# Altium schematic symbol library Interface_UART.SchLib: 164 symbols (part 2 of 2)
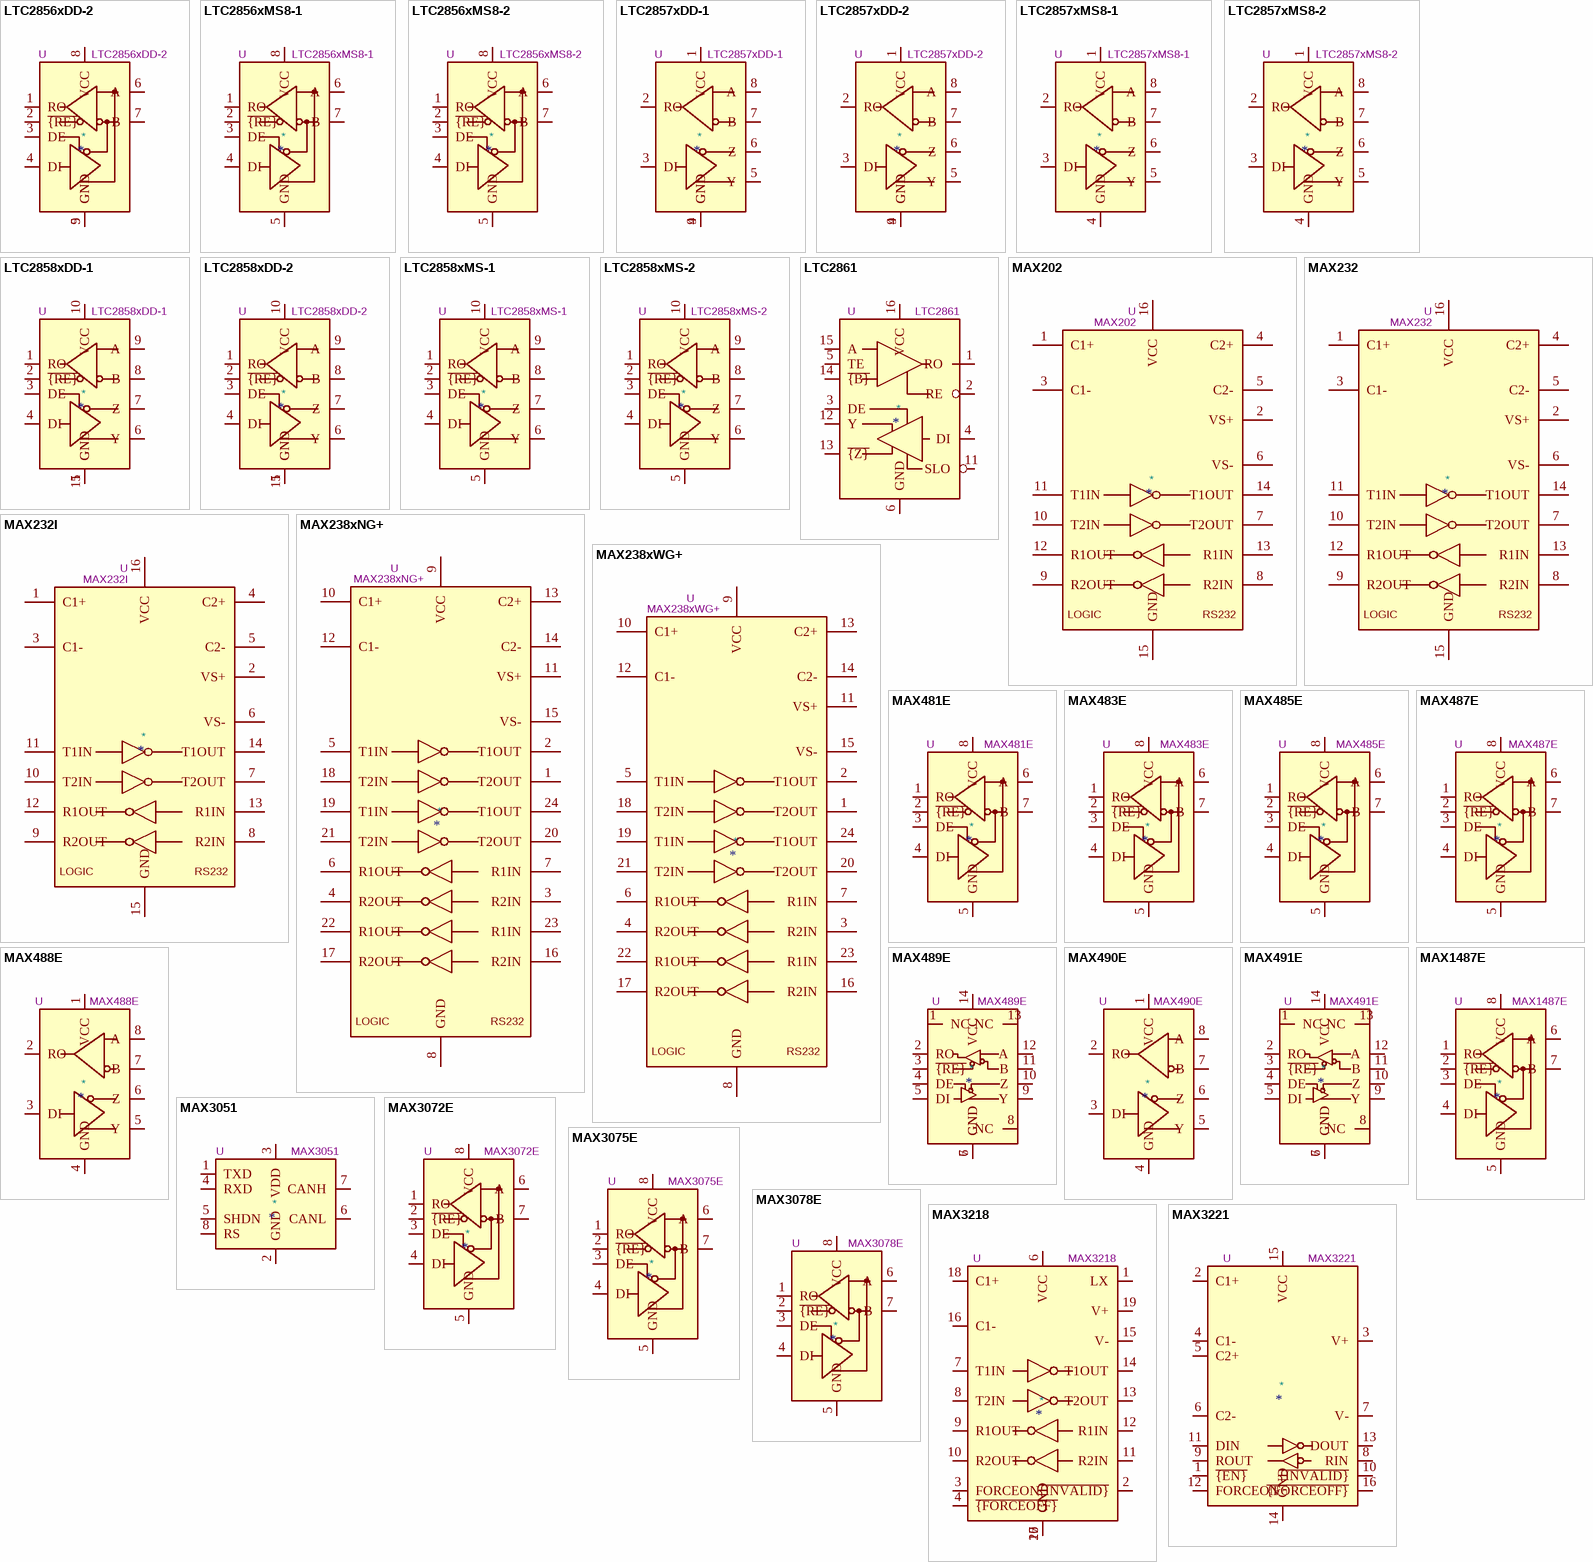
[diagram p7: symbols LTC2856xDD-2 to MAX3221]

## MAX485E
designator *  value MAX485E  Reference: U
Half duplex RS-485/RS-422, 2.5 Mbps, ±15kV electro-static discharge (ESD) protection, no slew-rate, no low-power shutdown, with receiver/driver enable, 32 receiver drive capability, DIP-8 and SOIC-8; ki_keywords: transceiver; ki_fp_filters: DIP*W7.62mm* SOIC*3.9x4.9mm*P1.27mm*; Datasheet: https://datasheets.maximintegrated.com/en/ds/MAX1487E-MAX491E.pdf; Description_: Half duplex RS-485/RS-422, 2.5 Mbps, ±15kV electro-static discharge (ESD) protection, no slew-rate, no low-power shutdown, with receiver/driver enable, 32 receiver drive capability, DIP-8 and SOIC-8
footprint SOIC-8_3.9x4.9mm_P1.27mm
pins: 1 RO, 2 ~{{RE}}, 3 DE, 4 DI, 5 GND, 6 A, 7 B, 8 VCC

## MAX487E
designator *  value MAX487E  Reference: U
Half duplex RS-485/RS-422, 0.25 Mbps, ±15kV electro-static discharge (ESD) protection, with slew-rate, with low-power shutdown, with receiver/driver enable, 128 receiver drive capability, DIP-8 and SOIC-8; ki_keywords: transceiver; ki_fp_filters: DIP*W7.62mm* SOIC*3.9x4.9mm*P1.27mm*; Datasheet: https://datasheets.maximintegrated.com/en/ds/MAX1487E-MAX491E.pdf; Description_: Half duplex RS-485/RS-422, 0.25 Mbps, ±15kV electro-static discharge (ESD) protection, with slew-rate, with low-power shutdown, with receiver/driver enable, 128 receiver drive capability, DIP-8 and SOIC-8
pins: 1 RO, 2 ~{{RE}}, 3 DE, 4 DI, 5 GND, 6 A, 7 B, 8 VCC

## MAX488E
designator *  value MAX488E  Reference: U
Full duplex RS-485/RS-422, 0.25 Mbps, ±15kV electro-static discharge (ESD) protection, slew-rate limited, no low-power shutdown, no with receiver/driver enable, 32 receiver drive capability, 0 to +70 degree Celsius, DIP-8 and SOIC-8; ki_keywords: transceiver; ki_fp_filters: DIP*W7.62mm* SOIC*3.9x4.9mm*P1.27mm*; Datasheet: https://datasheets.maximintegrated.com/en/ds/MAX1487E-MAX491E.pdf; Description_: Full duplex RS-485/RS-422, 0.25 Mbps, ±15kV electro-static discharge (ESD) protection, slew-rate limited, no low-power shutdown, no with receiver/driver enable, 32 receiver drive capability, 0 to +70 degree Celsius, DIP-8 and SOIC-8
pins: 1 VCC, 2 RO, 3 DI, 4 GND, 5 Y, 6 Z, 7 B, 8 A

## MAX489E
designator *  value MAX489E  Reference: U
Full duplex RS-485/RS-422, 0.25 Mbps, ±15kV electro-static discharge (ESD) protection, slew-rate limited, no low-power shutdown, with with receiver/driver enable, 32 receiver drive capability, 0 to +70 degree Celsius, DIP-14 and SOIC-14; ki_keywords: transceiver; ki_fp_filters: DIP*W7.62mm* SOIC*3.9x8.7mm*P1.27mm*; Datasheet: https://datasheets.maximintegrated.com/en/ds/MAX1487E-MAX491E.pdf; Description_: Full duplex RS-485/RS-422, 0.25 Mbps, ±15kV electro-static discharge (ESD) protection, slew-rate limited, no low-power shutdown, with with receiver/driver enable, 32 receiver drive capability, 0 to +70 degree Celsius, DIP-14 and SOIC-14
pins: 1 NC, 2 RO, 3 ~{{RE}}, 4 DE, 5 DI, 6 GND, 7 GND, 8 NC, 9 Y, 10 Z, 11 B, 12 A, 13 NC, 14 VCC

## MAX490E
designator *  value MAX490E  Reference: U
Full duplex RS-485/RS-422, 2.5 Mbps, ±15kV electro-static discharge (ESD) protection, no slew-rate limited, no low-power shutdown, no with receiver/driver enable, 32 receiver drive capability, -40 to +85 degree Celsius, DIP-8 and SOIC-8; ki_keywords: transceiver; ki_fp_filters: DIP*W7.62mm* SOIC*3.9x4.9mm*P1.27mm*; Datasheet: https://datasheets.maximintegrated.com/en/ds/MAX1487E-MAX491E.pdf; Description_: Full duplex RS-485/RS-422, 2.5 Mbps, ±15kV electro-static discharge (ESD) protection, no slew-rate limited, no low-power shutdown, no with receiver/driver enable, 32 receiver drive capability, -40 to +85 degree Celsius, DIP-8 and SOIC-8
pins: 1 VCC, 2 RO, 3 DI, 4 GND, 5 Y, 6 Z, 7 B, 8 A

## MAX491E
designator *  value MAX491E  Reference: U
Full duplex RS-485/RS-422, 2.5 Mbps, ±15kV electro-static discharge (ESD) protection, no slew-rate limited, no low-power shutdown, with receiver/driver enable, 32 receiver drive capability, 0 to +70 degree Celsius, DIP-14 and SOIC-14; ki_keywords: transceiver; ki_fp_filters: DIP*W7.62mm* SOIC*3.9x8.7mm*P1.27mm*; Datasheet: https://datasheets.maximintegrated.com/en/ds/MAX1487E-MAX491E.pdf; Description_: Full duplex RS-485/RS-422, 2.5 Mbps, ±15kV electro-static discharge (ESD) protection, no slew-rate limited, no low-power shutdown, with receiver/driver enable, 32 receiver drive capability, 0 to +70 degree Celsius, DIP-14 and SOIC-14
pins: 1 NC, 2 RO, 3 ~{{RE}}, 4 DE, 5 DI, 6 GND, 7 GND, 8 NC, 9 Y, 10 Z, 11 B, 12 A, 13 NC, 14 VCC

## MAX1487E
designator *  value MAX1487E  Reference: U
Half duplex RS-485/RS-422, 2.5 Mbps, ±15kV electro-static discharge (ESD) protection, no slew-rate, no low-power shutdown, with receiver/driver enable, 128 receiver drive capability, DIP-8 and SOIC-8; ki_keywords: transceiver; ki_fp_filters: DIP*W7.62mm* SOIC*3.9x4.9mm*P1.27mm*; Datasheet: https://datasheets.maximintegrated.com/en/ds/MAX1487E-MAX491E.pdf; Description_: Half duplex RS-485/RS-422, 2.5 Mbps, ±15kV electro-static discharge (ESD) protection, no slew-rate, no low-power shutdown, with receiver/driver enable, 128 receiver drive capability, DIP-8 and SOIC-8
pins: 1 RO, 2 ~{{RE}}, 3 DE, 4 DI, 5 GND, 6 A, 7 B, 8 VCC

## MAX3051
designator *  value MAX3051  Reference: U
High-Speed CAN Transceiver, 1Mbps, 3.3V supply; ki_fp_filters: SOT?23* SOIC*; Datasheet: http://datasheets.maximintegrated.com/en/ds/MAX3051.pdf; Description_: High-Speed CAN Transceiver, 1Mbps, 3.3V supply; ki_keywords: High-Speed CAN Transceiver
pins: 1 TXD, 2 GND, 3 VDD, 4 RXD, 5 SHDN, 6 CANL, 7 CANH, 8 RS

## MAX3072E
designator *  value MAX3072E  Reference: U
+3.3V, ±15kV ESD-Protected, Fail-Safe, Hot-Swap, RS-485/RS-422 Transceivers, SOIC-8; ki_keywords: Low Power Half-Duplex RS-485 RS-422 Transceiver; ki_fp_filters: SOIC*3.9x4.9mm*P1.27mm*; Footprint: Package_SO:SOIC-8_3.9x4.9mm_P1.27mm; Datasheet: https://datasheets.maximintegrated.com/en/ds/MAX3070E-MAX3079E.pdf; Description_: +3.3V, ±15kV ESD-Protected, Fail-Safe, Hot-Swap, RS-485/RS-422 Transceivers, SOIC-8
pins: 1 RO, 2 ~{{RE}}, 3 DE, 4 DI, 5 GND, 6 A, 7 B, 8 VCC

## MAX3075E
designator *  value MAX3075E  Reference: U
+3.3V, ±15kV ESD-Protected, Fail-Safe, Hot-Swap, RS-485/RS-422 Transceivers, SOIC-8; ki_keywords: Low Power Half-Duplex RS-485 RS-422 Transceiver; ki_fp_filters: SOIC*3.9x4.9mm*P1.27mm*; Footprint: Package_SO:SOIC-8_3.9x4.9mm_P1.27mm; Datasheet: https://datasheets.maximintegrated.com/en/ds/MAX3070E-MAX3079E.pdf; Description_: +3.3V, ±15kV ESD-Protected, Fail-Safe, Hot-Swap, RS-485/RS-422 Transceivers, SOIC-8
pins: 1 RO, 2 ~{{RE}}, 3 DE, 4 DI, 5 GND, 6 A, 7 B, 8 VCC

## MAX3078E
designator *  value MAX3078E  Reference: U
+3.3V, ±15kV ESD-Protected, Fail-Safe, Hot-Swap, RS-485/RS-422 Transceivers, SOIC-8; ki_keywords: Low Power Half-Duplex RS-485 RS-422 Transceiver; ki_fp_filters: SOIC*3.9x4.9mm*P1.27mm*; Footprint: Package_SO:SOIC-8_3.9x4.9mm_P1.27mm; Datasheet: https://datasheets.maximintegrated.com/en/ds/MAX3070E-MAX3079E.pdf; Description_: +3.3V, ±15kV ESD-Protected, Fail-Safe, Hot-Swap, RS-485/RS-422 Transceivers, SOIC-8
pins: 1 RO, 2 ~{{RE}}, 3 DE, 4 DI, 5 GND, 6 A, 7 B, 8 VCC

## MAX3218
designator *  value MAX3218  Reference: U
Dual RS-232 Transceiver, 1.8V to 4.25V, AutoShutdown, DIP-20/SSOP-20; ki_keywords: 1μA Supply Current; ki_fp_filters: DIP*W7.62mm* SSOP*5.3x7.2mm*P0.65mm*; Datasheet: https://datasheets.maximintegrated.com/en/ds/MAX3218.pdf; Description_: Dual RS-232 Transceiver, 1.8V to 4.25V, AutoShutdown, DIP-20/SSOP-20
pins: 1 LX, 2 ~{{INVALID}}, 3 FORCEON, 4 ~{{FORCEOFF}}, 5 GND, 6 VCC, 7 T1IN, 8 T2IN, 9 R1OUT, 10 R2OUT, 11 R2IN, 12 R1IN, 13 T2OUT, 14 T1OUT, 15 V-, 16 C1-, 17 GND, 18 C1+, 19 V+, 20 GND

## MAX3221
designator *  value MAX3221  Reference: U
RS232 transceiver with 15kV ESD protection; ki_keywords: serial UART RS232; ki_fp_filters: SSOP* TSSOP*; Datasheet: http://www.ti.com/lit/ds/symlink/max3221.pdf; Description_: RS232 transceiver with 15kV ESD protection
pins: 1 ~{{EN}}, 2 C1+, 3 V+, 4 C1-, 5 C2+, 6 C2-, 7 V-, 8 RIN, 9 ROUT, 10 ~{{INVALID}}, 11 DIN, 12 FORCEON, 13 DOUT, 14 GND, 15 VCC, 16 ~{{FORCEOFF}}

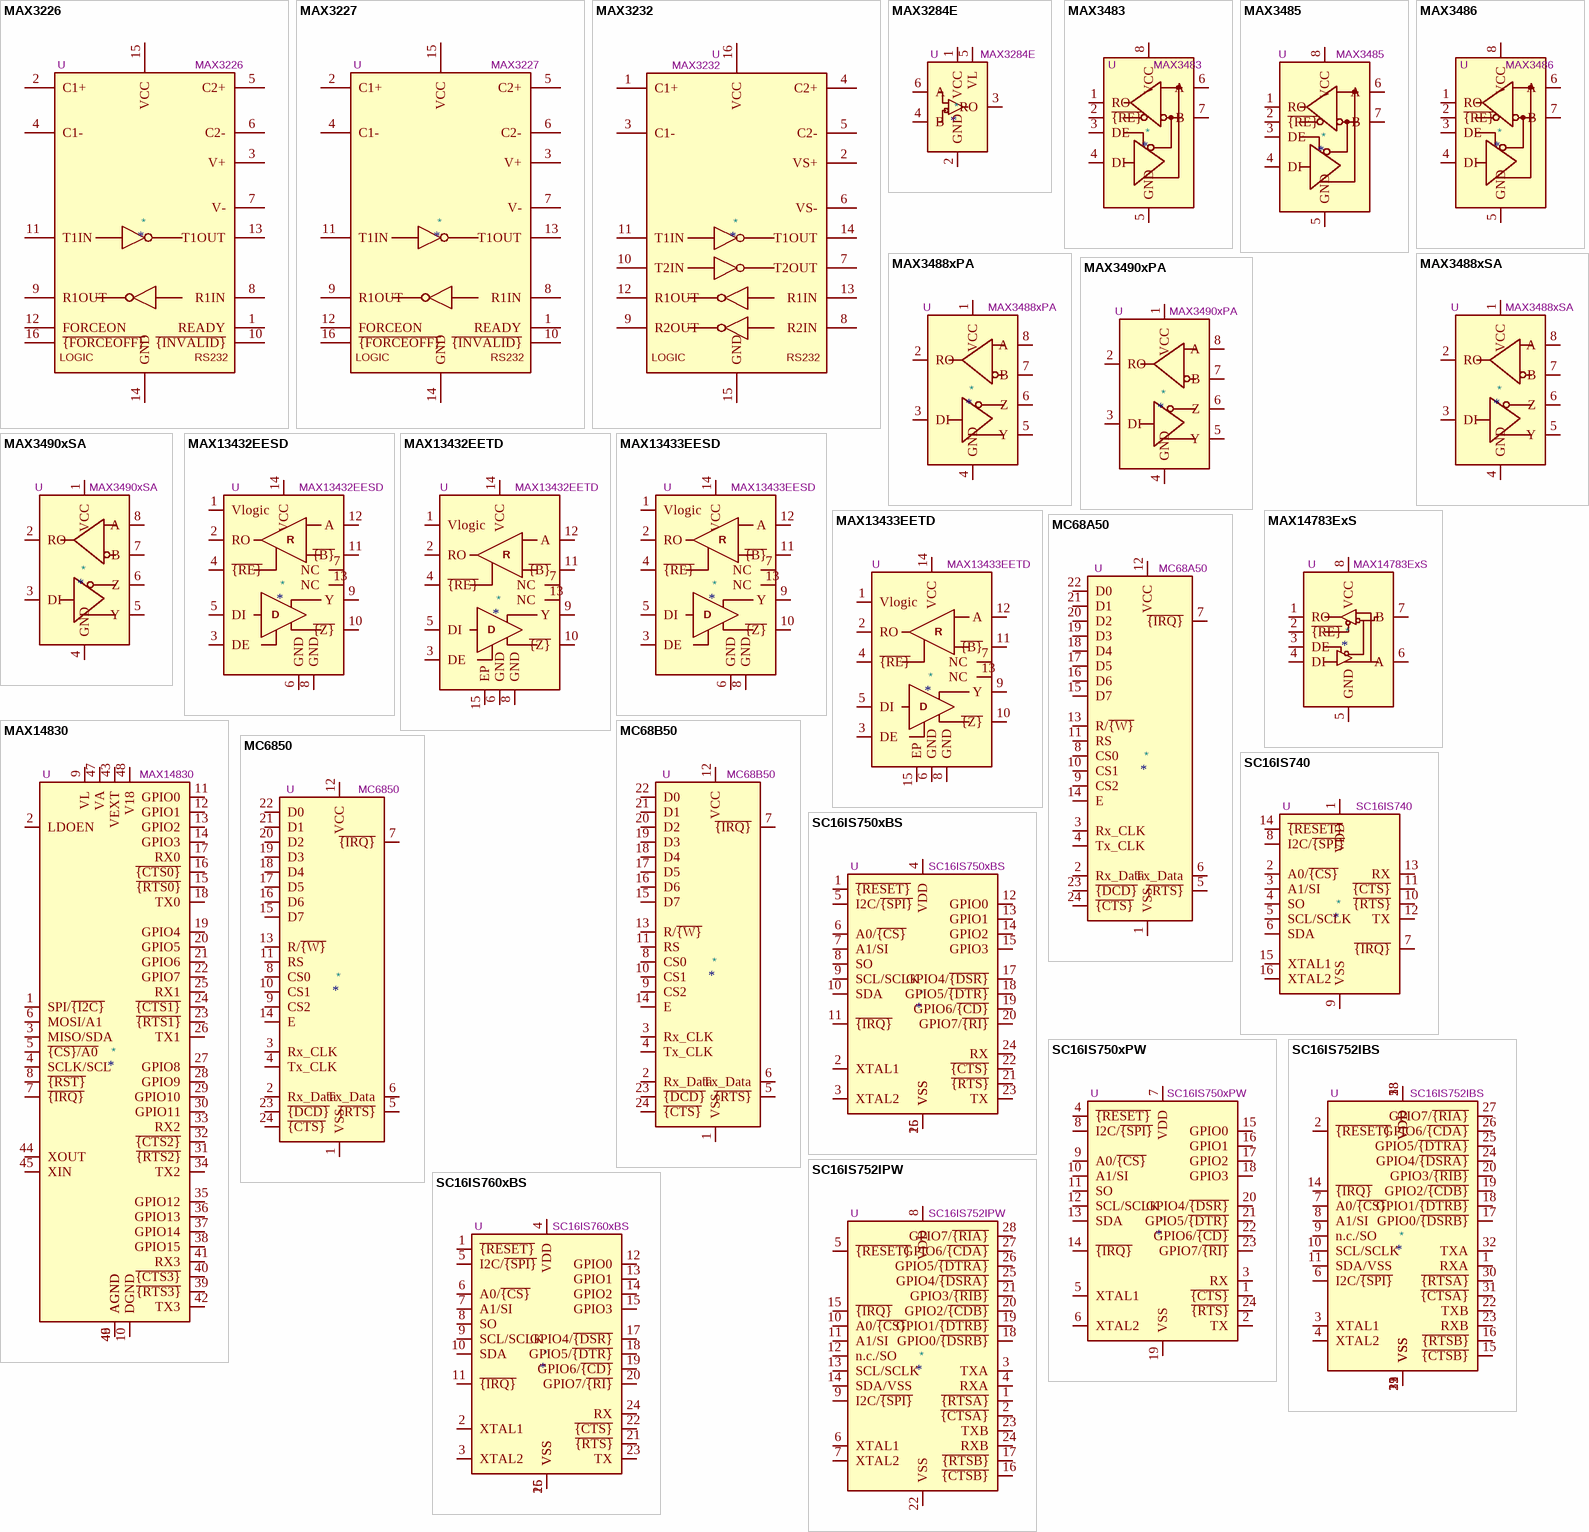
[diagram p4: symbols MAX3226 to SC16IS760xBS]

## MAX3226
designator *  value MAX3226  Reference: U
Single RS232 driver/receiver, 3.0V to 5V supply, 250kb/s, AutoShutdown Plus, SSOP-16 package; ki_keywords: rs232 uart transceiver; ki_fp_filters: SSOP*5.3x6.2mm*P0.65mm*; Footprint: Package_SO:SSOP-16_5.3x6.2mm_P0.65mm; Datasheet: https://datasheets.maximintegrated.com/en/ds/MAX3224-MAX3245.pdf; Description_: Single RS232 driver/receiver, 3.0V to 5V supply, 250kb/s, AutoShutdown Plus, SSOP-16 package
pins: 1 READY, 2 C1+, 3 V+, 4 C1-, 5 C2+, 6 C2-, 7 V-, 8 R1IN, 9 R1OUT, 10 ~{{INVALID}}, 11 T1IN, 12 FORCEON, 13 T1OUT, 14 GND, 15 VCC, 16 ~{{FORCEOFF}}
text: LOGIC; RS232

## MAX3227
designator *  value MAX3227  Reference: U
Single RS232 driver/receiver, 3.0V to 5V supply, 1Mb/s, AutoShutdown Plus, SSOP-16 package; ki_keywords: rs232 uart transceiver; ki_fp_filters: SSOP*5.3x6.2mm*P0.65mm*; Footprint: Package_SO:SSOP-16_5.3x6.2mm_P0.65mm; Datasheet: https://datasheets.maximintegrated.com/en/ds/MAX3224-MAX3245.pdf; Description_: Single RS232 driver/receiver, 3.0V to 5V supply, 1Mb/s, AutoShutdown Plus, SSOP-16 package
pins: 1 READY, 2 C1+, 3 V+, 4 C1-, 5 C2+, 6 C2-, 7 V-, 8 R1IN, 9 R1OUT, 10 ~{{INVALID}}, 11 T1IN, 12 FORCEON, 13 T1OUT, 14 GND, 15 VCC, 16 ~{{FORCEOFF}}
text: LOGIC; RS232

## MAX3232
designator *  value MAX3232  Reference: U
3.0V to 5.5V, Low-Power, up to 1Mbps, True RS-232 Transceivers Using Four 0.1μF External Capacitors; ki_keywords: rs232 uart transceiver line-driver; ki_fp_filters: SOIC*P1.27mm* DIP*W7.62mm* TSSOP*4.4x5mm*P0.65mm*; Datasheet: https://datasheets.maximintegrated.com/en/ds/MAX3222-MAX3241.pdf; Description_: 3.0V to 5.5V, Low-Power, up to 1Mbps, True RS-232 Transceivers Using Four 0.1μF External Capacitors
pins: 1 C1+, 2 VS+, 3 C1-, 4 C2+, 5 C2-, 6 VS-, 7 T2OUT, 8 R2IN, 9 R2OUT, 10 T2IN, 11 T1IN, 12 R1OUT, 13 R1IN, 14 T1OUT, 15 GND, 16 VCC
text: LOGIC; RS232

## MAX3284E
designator *  value MAX3284E  Reference: U
±15kV ESD-Protected 52Mbps, 3V to 5.5V RS-485/RS-422 True Fail-Safe Receivers, SOT23; ki_keywords: RS-485 RS-422 True Fail-Safe Receivers 1/4 unit load receiver; ki_fp_filters: SOT?23*; Footprint: Package_TO_SOT_SMD:SOT-23-6; Datasheet: https://datasheets.maximintegrated.com/en/ds/MAX3280E-MAX3284E.pdf; Description_: ±15kV ESD-Protected 52Mbps, 3V to 5.5V RS-485/RS-422 True Fail-Safe Receivers, SOT23
pins: 1 VCC, 2 GND, 3 RO, 4 B, 5 VL, 6 A

## MAX3483
designator *  value MAX3483  Reference: U
True RS-485/RS-422, 0.25Mbps, Slew-Rate Limited, with low-power shutdown, with receiver/driver enable, 32 receiver drive capacitity, DIP-8 and SOIC-8; ki_keywords: RS-485 RS-422 UART line-driver transceiver; ki_fp_filters: DIP*W7.62mm* SOIC*3.9x4.9mm*P1.27mm*; Datasheet: https://datasheets.maximintegrated.com/en/ds/MAX3483-MAX3491.pdf; Description_: True RS-485/RS-422, 0.25Mbps, Slew-Rate Limited, with low-power shutdown, with receiver/driver enable, 32 receiver drive capacitity, DIP-8 and SOIC-8
pins: 1 RO, 2 ~{{RE}}, 3 DE, 4 DI, 5 GND, 6 A, 7 B, 8 VCC

## MAX3485
designator *  value MAX3485  Reference: U
True RS-485/RS-422, 10Mbps, Slew-Rate Limited, with low-power shutdown, with receiver/driver enable, 32 receiver drive capacitity, DIP-8 and SOIC-8; ki_keywords: RS-485 RS-422 UART line-driver transceiver; ki_fp_filters: DIP*W7.62mm* SOIC*3.9x4.9mm*P1.27mm*; Datasheet: https://datasheets.maximintegrated.com/en/ds/MAX3483-MAX3491.pdf; Description_: True RS-485/RS-422, 10Mbps, Slew-Rate Limited, with low-power shutdown, with receiver/driver enable, 32 receiver drive capacitity, DIP-8 and SOIC-8
pins: 1 RO, 2 ~{{RE}}, 3 DE, 4 DI, 5 GND, 6 A, 7 B, 8 VCC

## MAX3486
designator *  value MAX3486  Reference: U
True RS-485/RS-422, 2.5Mbps, Slew-Rate Limited, with low-power shutdown, with receiver/driver enable, 32 receiver drive capacitity, DIP-8 and SOIC-8; ki_keywords: RS-485 RS-422 UART line-driver transceiver; ki_fp_filters: DIP*W7.62mm* SOIC*3.9x4.9mm*P1.27mm*; Datasheet: https://datasheets.maximintegrated.com/en/ds/MAX3483-MAX3491.pdf; Description_: True RS-485/RS-422, 2.5Mbps, Slew-Rate Limited, with low-power shutdown, with receiver/driver enable, 32 receiver drive capacitity, DIP-8 and SOIC-8
pins: 1 RO, 2 ~{{RE}}, 3 DE, 4 DI, 5 GND, 6 A, 7 B, 8 VCC

## MAX3488xPA
designator *  value MAX3488xPA  Reference: U
Full duplex RS-485/RS-422, 0.25 Mbps, slew-rate limited, no low-power shutdown, no with receiver/driver enable, 32 receiver drive capability, DIP-8; ki_keywords: transceiver; ki_fp_filters: DIP*W7.62mm*; Footprint: Package_DIP:DIP-8_W7.62mm; Datasheet: https://www.analog.com/media/en/technical-documentation/data-sheets/MAX3483-MAX3491.pdf; Description_: Full duplex RS-485/RS-422, 0.25 Mbps, slew-rate limited, no low-power shutdown, no with receiver/driver enable, 32 receiver drive capability, DIP-8
pins: 1 VCC, 2 RO, 3 DI, 4 GND, 5 Y, 6 Z, 7 B, 8 A

## MAX3488xSA
designator *  value MAX3488xSA  Reference: U
Full duplex RS-485/RS-422, 0.25 Mbps, slew-rate limited, no low-power shutdown, no with receiver/driver enable, 32 receiver drive capability, SOIC-8; ki_keywords: transceiver; ki_fp_filters: SOIC*3.9x4.9mm*P1.27mm*; Footprint: Package_SO:SOIC-8_3.9x4.9mm_P1.27mm; Datasheet: https://www.analog.com/media/en/technical-documentation/data-sheets/MAX3483-MAX3491.pdf; Description_: Full duplex RS-485/RS-422, 0.25 Mbps, slew-rate limited, no low-power shutdown, no with receiver/driver enable, 32 receiver drive capability, SOIC-8
pins: 1 VCC, 2 RO, 3 DI, 4 GND, 5 Y, 6 Z, 7 B, 8 A

## MAX3490xPA
designator *  value MAX3490xPA  Reference: U
Full duplex RS-485/RS-422, 10 Mbps, slew-rate limited, no low-power shutdown, no with receiver/driver enable, 32 receiver drive capability, DIP-8; ki_keywords: transceiver; ki_fp_filters: DIP*W7.62mm*; Footprint: Package_DIP:DIP-8_W7.62mm; Datasheet: https://www.analog.com/media/en/technical-documentation/data-sheets/MAX3483-MAX3491.pdf; Description_: Full duplex RS-485/RS-422, 10 Mbps, slew-rate limited, no low-power shutdown, no with receiver/driver enable, 32 receiver drive capability, DIP-8
pins: 1 VCC, 2 RO, 3 DI, 4 GND, 5 Y, 6 Z, 7 B, 8 A

## MAX3490xSA
designator *  value MAX3490xSA  Reference: U
Full duplex RS-485/RS-422, 10Mbps, slew-rate limited, no low-power shutdown, no with receiver/driver enable, 32 receiver drive capability, SOIC-8; ki_keywords: transceiver; ki_fp_filters: SOIC*3.9x4.9mm*P1.27mm*; Footprint: Package_SO:SOIC-8_3.9x4.9mm_P1.27mm; Datasheet: https://www.analog.com/media/en/technical-documentation/data-sheets/MAX3483-MAX3491.pdf; Description_: Full duplex RS-485/RS-422, 10Mbps, slew-rate limited, no low-power shutdown, no with receiver/driver enable, 32 receiver drive capability, SOIC-8
pins: 1 VCC, 2 RO, 3 DI, 4 GND, 5 Y, 6 Z, 7 B, 8 A

## MAX13432EESD
designator *  value MAX13432EESD  Reference: U
RS485 transceiver, full duplex, dual supply, receiver/driver enable, 500kbps, SOIC-14 package; ki_fp_filters: SOIC*3.9x8.7mm*P1.27mm*; Footprint: Package_SO:SOIC-14_3.9x8.7mm_P1.27mm; Datasheet: https://datasheets.maximintegrated.com/en/ds/MAX13430E-MAX13433E.pdf; Description_: RS485 transceiver, full duplex, dual supply, receiver/driver enable, 500kbps, SOIC-14 package; ki_keywords: rs485 transceiver
pins: 1 Vlogic, 2 RO, 3 DE, 4 ~{{RE}}, 5 DI, 6 GND, 7 NC, 8 GND, 9 Y, 10 ~{{Z}}, 11 ~{{B}}, 12 A, 13 NC, 14 VCC
text: R; D

## MAX13432EETD
designator *  value MAX13432EETD  Reference: U
RS485 transceiver, full duplex, dual supply, receiver/driver enable, 500kbps, DFN-14 package; ki_fp_filters: DFN*3x3mm*P0.4mm*; Footprint: Package_DFN_QFN:DFN-14-1EP_3x3mm_P0.4mm_EP1.78x2.35mm; Datasheet: https://datasheets.maximintegrated.com/en/ds/MAX13430E-MAX13433E.pdf; Description_: RS485 transceiver, full duplex, dual supply, receiver/driver enable, 500kbps, DFN-14 package; ki_keywords: rs485 transceiver
pins: 1 Vlogic, 2 RO, 3 DE, 4 ~{{RE}}, 5 DI, 6 GND, 7 NC, 8 GND, 9 Y, 10 ~{{Z}}, 11 ~{{B}}, 12 A, 13 NC, 14 VCC, 15 EP
text: R; D

## MAX13433EESD
designator *  value MAX13433EESD  Reference: U
RS485 transceiver, full duplex, dual supply, receiver/driver enable, 16Mbps, SOIC-14 package; ki_fp_filters: SOIC*3.9x8.7mm*P1.27mm*; Footprint: Package_SO:SOIC-14_3.9x8.7mm_P1.27mm; Datasheet: https://datasheets.maximintegrated.com/en/ds/MAX13430E-MAX13433E.pdf; Description_: RS485 transceiver, full duplex, dual supply, receiver/driver enable, 16Mbps, SOIC-14 package; ki_keywords: rs485 transceiver
pins: 1 Vlogic, 2 RO, 3 DE, 4 ~{{RE}}, 5 DI, 6 GND, 7 NC, 8 GND, 9 Y, 10 ~{{Z}}, 11 ~{{B}}, 12 A, 13 NC, 14 VCC
text: R; D

## MAX13433EETD
designator *  value MAX13433EETD  Reference: U
RS485 transceiver, full duplex, dual supply, receiver/driver enable, 16Mbps, DFN-14 package; ki_fp_filters: DFN*3x3mm*P0.4mm*; Footprint: Package_DFN_QFN:DFN-14-1EP_3x3mm_P0.4mm_EP1.78x2.35mm; Datasheet: https://datasheets.maximintegrated.com/en/ds/MAX13430E-MAX13433E.pdf; Description_: RS485 transceiver, full duplex, dual supply, receiver/driver enable, 16Mbps, DFN-14 package; ki_keywords: rs485 transceiver
pins: 1 Vlogic, 2 RO, 3 DE, 4 ~{{RE}}, 5 DI, 6 GND, 7 NC, 8 GND, 9 Y, 10 ~{{Z}}, 11 ~{{B}}, 12 A, 13 NC, 14 VCC, 15 EP
text: R; D

## MAX14783ExS
designator *  value MAX14783ExS  Reference: U
High-Speed 3.3V/5V RS-485/RS-422 Transceiver with ±35kV HBM ESD Protection, SOIC8; ki_keywords: High-Speed 3.3V/5V RS-485/RS-422 Transceiver ESD 42Mbps; ki_fp_filters: SOIC*3.9x4.9mm*P1.27mm*; Footprint: Package_SO:SOIC-8_3.9x4.9mm_P1.27mm; Datasheet: https://datasheets.maximintegrated.com/en/ds/MAX14783E.pdf; Description_: High-Speed 3.3V/5V RS-485/RS-422 Transceiver with ±35kV HBM ESD Protection, SOIC8
pins: 1 RO, 2 ~{{RE}}, 3 DE, 4 DI, 5 GND, 6 A, 7 B, 8 VCC

## MAX14830
designator *  value MAX14830  Reference: U
Quad UART with I2C/SPI interface, 128 Word FIFOs, IrDA SIR built-in support, TQFN-48; ki_keywords: UART I2C/SPI 128W FIFO IrDA SIR; ki_fp_filters: TQFN*1EP*7x7mm*P0.5mm*; Footprint: Package_DFN_QFN:TQFN-48-1EP_7x7mm_P0.5mm_EP5.1x5.1mm; Datasheet: https://datasheets.maximintegrated.com/en/ds/MAX14830.pdf; Description_: Quad UART with I2C/SPI interface, 128 Word FIFOs, IrDA SIR built-in support, TQFN-48
pins: 1 SPI/~{{I2C}}, 2 LDOEN, 3 MISO/SDA, 4 SCLK/SCL, 5 ~{{CS}/A0}, 6 MOSI/A1, 7 ~{{IRQ}}, 8 ~{{RST}}, 9 VL, 10 DGND, 11 GPIO0, 12 GPIO1, 13 GPIO2, 14 GPIO3, 15 ~{{RTS0}}, 16 ~{{CTS0}}, 17 RX0, 18 TX0, 19 GPIO4, 20 GPIO5, 21 GPIO6, 22 GPIO7, 23 ~{{RTS1}}, 24 ~{{CTS1}}, 25 RX1, 26 TX1, 27 GPIO8, 28 GPIO9, 29 GPIO10, 30 GPIO11, 31 ~{{RTS2}}, 32 ~{{CTS2}}, 33 RX2, 34 TX2, 35 GPIO12, 36 GPIO13, 37 GPIO14, 38 GPIO15, 39 ~{{RTS3}}, 40 ~{{CTS3}}, 41 RX3, 42 TX3, 43 VEXT, 44 XOUT, 45 XIN, 46 AGND, 47 VA, 48 V18, 49 AGND

## MC68A50
designator *  value MC68A50  Reference: U
Asynchronous Communications Interface Adapter 1.5MHz, DIP-40; ki_keywords: ACIA; ki_fp_filters: DIP*W15.24mm*; Footprint: Package_DIP:DIP-24_W15.24mm; Datasheet: http://pdf.datasheetcatalog.com/datasheet/motorola/MC6850.pdf; Description_: Asynchronous Communications Interface Adapter 1.5MHz, DIP-40
pins: 1 VSS, 2 Rx_Data, 3 Rx_CLK, 4 Tx_CLK, 5 ~{{RTS}}, 6 Tx_Data, 7 ~{{IRQ}}, 8 CS0, 9 CS2, 10 CS1, 11 RS, 12 VCC, 13 R/~{{W}}, 14 E, 15 D7, 16 D6, 17 D5, 18 D4, 19 D3, 20 D2, 21 D1, 22 D0, 23 ~{{DCD}}, 24 ~{{CTS}}

## MC68B50
designator *  value MC68B50  Reference: U
Asynchronous Communications Interface Adapter 2MHz, DIP-40; ki_keywords: ACIA; ki_fp_filters: DIP*W15.24mm*; Footprint: Package_DIP:DIP-24_W15.24mm; Datasheet: http://pdf.datasheetcatalog.com/datasheet/motorola/MC6850.pdf; Description_: Asynchronous Communications Interface Adapter 2MHz, DIP-40
pins: 1 VSS, 2 Rx_Data, 3 Rx_CLK, 4 Tx_CLK, 5 ~{{RTS}}, 6 Tx_Data, 7 ~{{IRQ}}, 8 CS0, 9 CS2, 10 CS1, 11 RS, 12 VCC, 13 R/~{{W}}, 14 E, 15 D7, 16 D6, 17 D5, 18 D4, 19 D3, 20 D2, 21 D1, 22 D0, 23 ~{{DCD}}, 24 ~{{CTS}}

## MC6850
designator *  value MC6850  Reference: U
Asynchronous Communications Interface Adapter 1MHz, DIP-40; ki_keywords: ACIA; ki_fp_filters: DIP*W15.24mm*; Footprint: Package_DIP:DIP-24_W15.24mm; Datasheet: http://pdf.datasheetcatalog.com/datasheet/motorola/MC6850.pdf; Description_: Asynchronous Communications Interface Adapter 1MHz, DIP-40
pins: 1 VSS, 2 Rx_Data, 3 Rx_CLK, 4 Tx_CLK, 5 ~{{RTS}}, 6 Tx_Data, 7 ~{{IRQ}}, 8 CS0, 9 CS2, 10 CS1, 11 RS, 12 VCC, 13 R/~{{W}}, 14 E, 15 D7, 16 D6, 17 D5, 18 D4, 19 D3, 20 D2, 21 D1, 22 D0, 23 ~{{DCD}}, 24 ~{{CTS}}

## SC16IS740
designator *  value SC16IS740  Reference: U
Single UART with I2C/SPI interface, 64 bytes of transmit and receive FIFOs, IrDA SIR built-in support, TSSOP-16; ki_keywords: UART I2C/SPI 64B FIFO IrDA SIR; ki_fp_filters: TSSOP*4.4x5mm*P0.65mm*; Footprint: Package_SO:TSSOP-16_4.4x5mm_P0.65mm; Datasheet: https://www.nxp.com/docs/en/data-sheet/SC16IS740_750_760.pdf; Description_: Single UART with I2C/SPI interface, 64 bytes of transmit and receive FIFOs, IrDA SIR built-in support, TSSOP-16
pins: 1 VDD, 2 A0/~{{CS}}, 3 A1/SI, 4 SO, 5 SCL/SCLK, 6 SDA, 7 ~{{IRQ}}, 8 I2C/~{{SPI}}, 9 VSS, 10 ~{{RTS}}, 11 ~{{CTS}}, 12 TX, 13 RX, 14 ~{{RESET}}, 15 XTAL1, 16 XTAL2

## SC16IS750xBS
designator *  value SC16IS750xBS  Reference: U
Single UART with I2C/SPI interface, 64 bytes of transmit and receive FIFOs, IrDA SIR built-in support, HVQFN-24; ki_keywords: UART I2C/SPI 64B FIFO IrDA SIR; ki_fp_filters: HVQFN*1EP*4x4mm*P0.5mm*; Footprint: Package_DFN_QFN:HVQFN-24-1EP_4x4mm_P0.5mm_EP2.5x2.5mm; Datasheet: https://www.nxp.com/docs/en/data-sheet/SC16IS740_750_760.pdf; Description_: Single UART with I2C/SPI interface, 64 bytes of transmit and receive FIFOs, IrDA SIR built-in support, HVQFN-24
pins: 1 ~{{RESET}}, 2 XTAL1, 3 XTAL2, 4 VDD, 5 I2C/~{{SPI}}, 6 A0/~{{CS}}, 7 A1/SI, 8 SO, 9 SCL/SCLK, 10 SDA, 11 ~{{IRQ}}, 12 GPIO0, 13 GPIO1, 14 GPIO2, 15 GPIO3, 16 VSS, 17 GPIO4/~{{DSR}}, 18 GPIO5/~{{DTR}}, 19 GPIO6/~{{CD}}, 20 GPIO7/~{{RI}}, 21 ~{{RTS}}, 22 ~{{CTS}}, 23 TX, 24 RX, 25 VSS

## SC16IS750xPW
designator *  value SC16IS750xPW  Reference: U
Single UART with I2C/SPI interface, 64 bytes of transmit and receive FIFOs, IrDA SIR built-in support, TSSOP-24; ki_keywords: UART I2C/SPI 64B FIFO IrDA SIR; ki_fp_filters: TSSOP*4.4x7.8mm*P0.65mm*; Footprint: Package_SO:TSSOP-24_4.4x7.8mm_P0.65mm; Datasheet: https://www.nxp.com/docs/en/data-sheet/SC16IS740_750_760.pdf; Description_: Single UART with I2C/SPI interface, 64 bytes of transmit and receive FIFOs, IrDA SIR built-in support, TSSOP-24
pins: 1 ~{{CTS}}, 2 TX, 3 RX, 4 ~{{RESET}}, 5 XTAL1, 6 XTAL2, 7 VDD, 8 I2C/~{{SPI}}, 9 A0/~{{CS}}, 10 A1/SI, 11 SO, 12 SCL/SCLK, 13 SDA, 14 ~{{IRQ}}, 15 GPIO0, 16 GPIO1, 17 GPIO2, 18 GPIO3, 19 VSS, 20 GPIO4/~{{DSR}}, 21 GPIO5/~{{DTR}}, 22 GPIO6/~{{CD}}, 23 GPIO7/~{{RI}}, 24 ~{{RTS}}

## SC16IS752IBS
designator *  value SC16IS752IBS  Reference: U
Dual UART with I2C/SPI interface, 64 bytes of transmit and receive FIFOs, IrDA SIR built-in support, HVQFN-32; ki_keywords: UART I2C/SPI 64B FIFO IrDA SIR; ki_fp_filters: VQFN*1EP*5x5mm*P0.5mm*; Footprint: Package_DFN_QFN:VQFN-32-1EP_5x5mm_P0.5mm_EP3.1x3.1mm; Datasheet: https://www.nxp.com/docs/en/data-sheet/SC16IS752_SC16IS762.pdf; Description_: Dual UART with I2C/SPI interface, 64 bytes of transmit and receive FIFOs, IrDA SIR built-in support, HVQFN-32
pins: 1 RXA, 2 ~{{RESET}}, 3 XTAL1, 4 XTAL2, 5 VDD, 6 I2C/~{{SPI}}, 7 A0/~{{CS}}, 8 A1/SI, 9 n.c./SO, 10 SCL/SCLK, 11 SDA/VSS, 12 VSS, 13 VDD, 14 ~{{IRQ}}, 15 ~{{CTSB}}, 16 ~{{RTSB}}, 17 GPIO0/~{{DSRB}}, 18 GPIO1/~{{DTRB}}, 19 GPIO2/~{{CDB}}, 20 GPIO3/~{{RIB}}, 21 VSS, 22 TXB, 23 RXB, 24 GPIO4/~{{DSRA}}, 25 GPIO5/~{{DTRA}}, 26 GPIO6/~{{CDA}}, 27 GPIO7/~{{RIA}}, 28 VDD, 29 VSS, 30 ~{{RTSA}}, 31 ~{{CTSA}}, 32 TXA, 33 VSS

## SC16IS752IPW
designator *  value SC16IS752IPW  Reference: U
Dual UART with I2C/SPI interface, 64 bytes of transmit and receive FIFOs, IrDA SIR built-in support, TSSOP-28; ki_keywords: UART I2C/SPI 64B FIFO IrDA SIR; ki_fp_filters: TSSOP*4.4x9.7mm*P0.65mm*; Footprint: Package_SO:TSSOP-28_4.4x9.7mm_P0.65mm; Datasheet: https://www.nxp.com/docs/en/data-sheet/SC16IS752_SC16IS762.pdf; Description_: Dual UART with I2C/SPI interface, 64 bytes of transmit and receive FIFOs, IrDA SIR built-in support, TSSOP-28
pins: 1 ~{{RTSA}}, 2 ~{{CTSA}}, 3 TXA, 4 RXA, 5 ~{{RESET}}, 6 XTAL1, 7 XTAL2, 8 VDD, 9 I2C/~{{SPI}}, 10 A0/~{{CS}}, 11 A1/SI, 12 n.c./SO, 13 SCL/SCLK, 14 SDA/VSS, 15 ~{{IRQ}}, 16 ~{{CTSB}}, 17 ~{{RTSB}}, 18 GPIO0/~{{DSRB}}, 19 GPIO1/~{{DTRB}}, 20 GPIO2/~{{CDB}}, 21 GPIO3/~{{RIB}}, 22 VSS, 23 TXB, 24 RXB, 25 GPIO4/~{{DSRA}}, 26 GPIO5/~{{DTRA}}, 27 GPIO6/~{{CDA}}, 28 GPIO7/~{{RIA}}

## SC16IS760xBS
designator *  value SC16IS760xBS  Reference: U
Single UART with I2C/SPI interface, 64 bytes of transmit and receive FIFOs, IrDA SIR built-in support, HVQFN-24; ki_keywords: UART I2C/SPI 64B FIFO IrDA SIR; ki_fp_filters: HVQFN*1EP*4x4mm*P0.5mm*; Footprint: Package_DFN_QFN:HVQFN-24-1EP_4x4mm_P0.5mm_EP2.5x2.5mm; Datasheet: https://www.nxp.com/docs/en/data-sheet/SC16IS740_750_760.pdf; Description_: Single UART with I2C/SPI interface, 64 bytes of transmit and receive FIFOs, IrDA SIR built-in support, HVQFN-24
pins: 1 ~{{RESET}}, 2 XTAL1, 3 XTAL2, 4 VDD, 5 I2C/~{{SPI}}, 6 A0/~{{CS}}, 7 A1/SI, 8 SO, 9 SCL/SCLK, 10 SDA, 11 ~{{IRQ}}, 12 GPIO0, 13 GPIO1, 14 GPIO2, 15 GPIO3, 16 VSS, 17 GPIO4/~{{DSR}}, 18 GPIO5/~{{DTR}}, 19 GPIO6/~{{CD}}, 20 GPIO7/~{{RI}}, 21 ~{{RTS}}, 22 ~{{CTS}}, 23 TX, 24 RX, 25 VSS

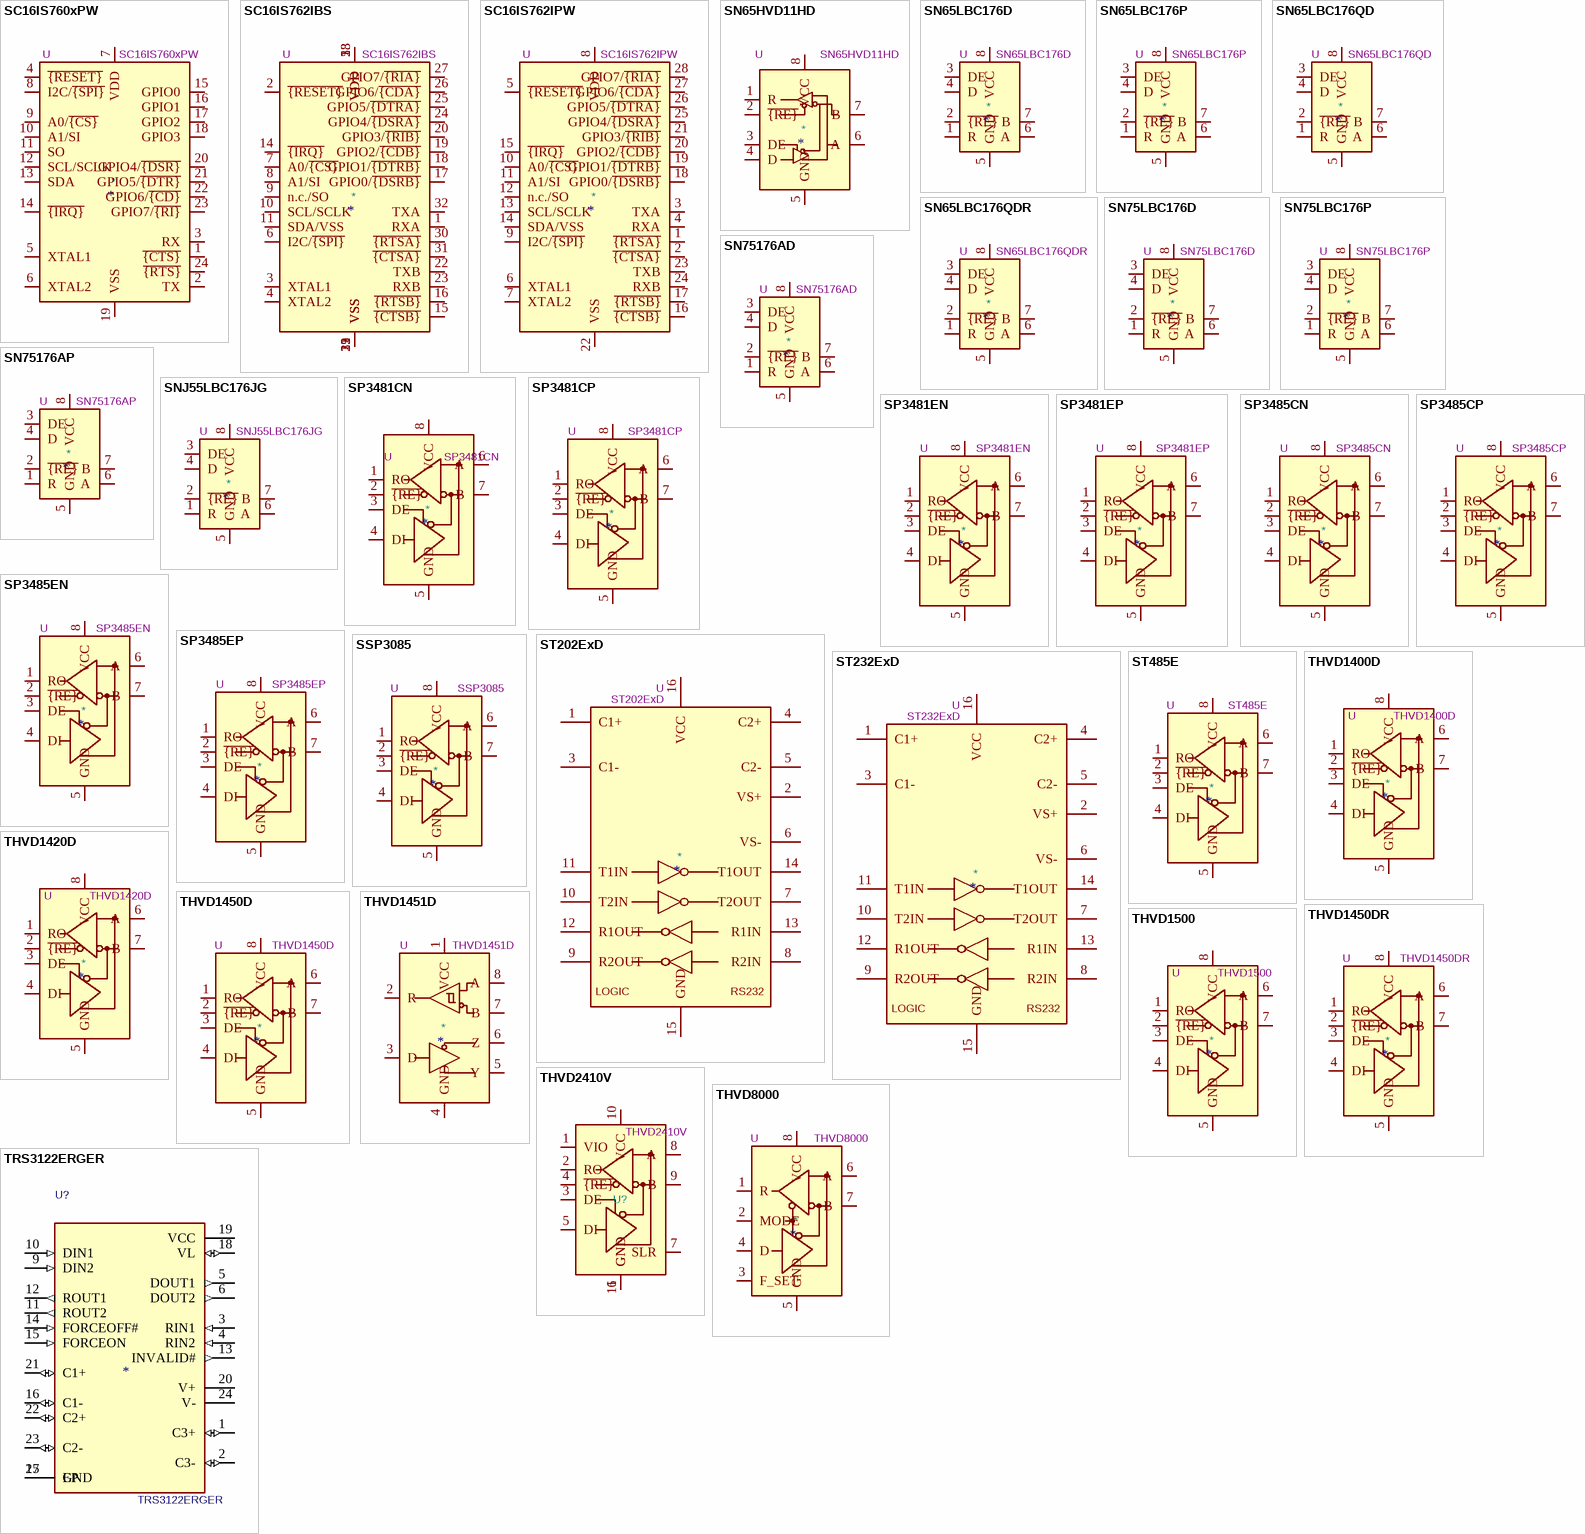
[diagram p5: symbols SC16IS760xPW to TRS3122ERGER]

## SC16IS760xPW
designator *  value SC16IS760xPW  Reference: U
Single UART with I2C/SPI interface, 64 bytes of transmit and receive FIFOs, IrDA SIR built-in support, TSSOP-24; ki_keywords: UART I2C/SPI 64B FIFO IrDA SIR; ki_fp_filters: TSSOP*4.4x7.8mm*P0.65mm*; Footprint: Package_SO:TSSOP-24_4.4x7.8mm_P0.65mm; Datasheet: https://www.nxp.com/docs/en/data-sheet/SC16IS740_750_760.pdf; Description_: Single UART with I2C/SPI interface, 64 bytes of transmit and receive FIFOs, IrDA SIR built-in support, TSSOP-24
pins: 1 ~{{CTS}}, 2 TX, 3 RX, 4 ~{{RESET}}, 5 XTAL1, 6 XTAL2, 7 VDD, 8 I2C/~{{SPI}}, 9 A0/~{{CS}}, 10 A1/SI, 11 SO, 12 SCL/SCLK, 13 SDA, 14 ~{{IRQ}}, 15 GPIO0, 16 GPIO1, 17 GPIO2, 18 GPIO3, 19 VSS, 20 GPIO4/~{{DSR}}, 21 GPIO5/~{{DTR}}, 22 GPIO6/~{{CD}}, 23 GPIO7/~{{RI}}, 24 ~{{RTS}}

## SC16IS762IBS
designator *  value SC16IS762IBS  Reference: U
Dual UART with I2C/SPI interface, 64 bytes of transmit and receive FIFOs, IrDA SIR built-in support, HVQFN-32; ki_keywords: UART I2C/SPI 64B FIFO IrDA SIR; ki_fp_filters: VQFN*1EP*5x5mm*P0.5mm*; Footprint: Package_DFN_QFN:VQFN-32-1EP_5x5mm_P0.5mm_EP3.1x3.1mm; Datasheet: https://www.nxp.com/docs/en/data-sheet/SC16IS752_SC16IS762.pdf; Description_: Dual UART with I2C/SPI interface, 64 bytes of transmit and receive FIFOs, IrDA SIR built-in support, HVQFN-32
pins: 1 RXA, 2 ~{{RESET}}, 3 XTAL1, 4 XTAL2, 5 VDD, 6 I2C/~{{SPI}}, 7 A0/~{{CS}}, 8 A1/SI, 9 n.c./SO, 10 SCL/SCLK, 11 SDA/VSS, 12 VSS, 13 VDD, 14 ~{{IRQ}}, 15 ~{{CTSB}}, 16 ~{{RTSB}}, 17 GPIO0/~{{DSRB}}, 18 GPIO1/~{{DTRB}}, 19 GPIO2/~{{CDB}}, 20 GPIO3/~{{RIB}}, 21 VSS, 22 TXB, 23 RXB, 24 GPIO4/~{{DSRA}}, 25 GPIO5/~{{DTRA}}, 26 GPIO6/~{{CDA}}, 27 GPIO7/~{{RIA}}, 28 VDD, 29 VSS, 30 ~{{RTSA}}, 31 ~{{CTSA}}, 32 TXA, 33 VSS

## SC16IS762IPW
designator *  value SC16IS762IPW  Reference: U
Dual UART with I2C/SPI interface, 64 bytes of transmit and receive FIFOs, IrDA SIR built-in support, TSSOP-28; ki_keywords: UART I2C/SPI 64B FIFO IrDA SIR; ki_fp_filters: TSSOP*4.4x9.7mm*P0.65mm*; Footprint: Package_SO:TSSOP-28_4.4x9.7mm_P0.65mm; Datasheet: https://www.nxp.com/docs/en/data-sheet/SC16IS752_SC16IS762.pdf; Description_: Dual UART with I2C/SPI interface, 64 bytes of transmit and receive FIFOs, IrDA SIR built-in support, TSSOP-28
pins: 1 ~{{RTSA}}, 2 ~{{CTSA}}, 3 TXA, 4 RXA, 5 ~{{RESET}}, 6 XTAL1, 7 XTAL2, 8 VDD, 9 I2C/~{{SPI}}, 10 A0/~{{CS}}, 11 A1/SI, 12 n.c./SO, 13 SCL/SCLK, 14 SDA/VSS, 15 ~{{IRQ}}, 16 ~{{CTSB}}, 17 ~{{RTSB}}, 18 GPIO0/~{{DSRB}}, 19 GPIO1/~{{DTRB}}, 20 GPIO2/~{{CDB}}, 21 GPIO3/~{{RIB}}, 22 VSS, 23 TXB, 24 RXB, 25 GPIO4/~{{DSRA}}, 26 GPIO5/~{{DTRA}}, 27 GPIO6/~{{CDA}}, 28 GPIO7/~{{RIA}}

## SN65HVD11HD
designator *  value SN65HVD11HD  Reference: U
3.3V, RS-485 Transceiver, SOIC-8; ki_keywords: rs485 transceiver; ki_fp_filters: SOIC*3.9x4.9mm*P1.27mm*; Footprint: Package_SO:SOIC-8_3.9x4.9mm_P1.27mm; Datasheet: http://www.ti.com/lit/ds/symlink/sn65hvd11-ht.pdf; Description_: 3.3V, RS-485 Transceiver, SOIC-8
pins: 1 R, 2 ~{{RE}}, 3 DE, 4 D, 5 GND, 6 A, 7 B, 8 VCC

## SN65LBC176D
designator *  value SN65LBC176D  Reference: U
Differential bus transceiver, SOIC-8; ki_fp_filters: SOIC*3.9x4.9mm*P1.27mm*; Footprint: Package_SO:SOIC-8_3.9x4.9mm_P1.27mm; Datasheet: http://www.ti.com/lit/ds/symlink/sn75lbc176.pdf; Description_: Differential bus transceiver, SOIC-8; ki_keywords: Differential bus transceiver
pins: 1 R, 2 ~{{RE}}, 3 DE, 4 D, 5 GND, 6 A, 7 B, 8 VCC

## SN65LBC176P
designator *  value SN65LBC176P  Reference: U
Differential bus transceiver, DIP-8; ki_fp_filters: DIP*W7.62mm*; Footprint: Package_DIP:DIP-8_W7.62mm; Datasheet: http://www.ti.com/lit/ds/symlink/sn75lbc176.pdf; Description_: Differential bus transceiver, DIP-8; ki_keywords: Differential bus transceiver
pins: 1 R, 2 ~{{RE}}, 3 DE, 4 D, 5 GND, 6 A, 7 B, 8 VCC

## SN65LBC176QD
designator *  value SN65LBC176QD  Reference: U
Differential bus transceiver, SOIC-8; ki_fp_filters: SOIC*3.9x4.9mm*P1.27mm*; Footprint: Package_SO:SOIC-8_3.9x4.9mm_P1.27mm; Datasheet: http://www.ti.com/lit/ds/symlink/sn75lbc176.pdf; Description_: Differential bus transceiver, SOIC-8; ki_keywords: Differential bus transceiver
pins: 1 R, 2 ~{{RE}}, 3 DE, 4 D, 5 GND, 6 A, 7 B, 8 VCC

## SN65LBC176QDR
designator *  value SN65LBC176QDR  Reference: U
Differential bus transceiver, SOIC-8; ki_fp_filters: SOIC*3.9x4.9mm*P1.27mm*; Footprint: Package_SO:SOIC-8_3.9x4.9mm_P1.27mm; Datasheet: http://www.ti.com/lit/ds/symlink/sn75lbc176.pdf; Description_: Differential bus transceiver, SOIC-8; ki_keywords: Differential bus transceiver
pins: 1 R, 2 ~{{RE}}, 3 DE, 4 D, 5 GND, 6 A, 7 B, 8 VCC

## SN75LBC176D
designator *  value SN75LBC176D  Reference: U
Differential bus transceiver, SOIC-8; ki_fp_filters: SOIC*3.9x4.9mm*P1.27mm*; Footprint: Package_SO:SOIC-8_3.9x4.9mm_P1.27mm; Datasheet: http://www.ti.com/lit/ds/symlink/sn75lbc176.pdf; Description_: Differential bus transceiver, SOIC-8; ki_keywords: Differential bus transceiver
pins: 1 R, 2 ~{{RE}}, 3 DE, 4 D, 5 GND, 6 A, 7 B, 8 VCC

## SN75LBC176P
designator *  value SN75LBC176P  Reference: U
Differential bus transceiver, DIP-8; ki_fp_filters: DIP*W7.62mm*; Footprint: Package_DIP:DIP-8_W7.62mm; Datasheet: http://www.ti.com/lit/ds/symlink/sn75lbc176.pdf; Description_: Differential bus transceiver, DIP-8; ki_keywords: Differential bus transceiver
pins: 1 R, 2 ~{{RE}}, 3 DE, 4 D, 5 GND, 6 A, 7 B, 8 VCC

## SN75176AD
designator *  value SN75176AD  Reference: U
Differential RS-422/RS-485 bus transceiver, SOIC-8; ki_keywords: Differential bus transceiver; ki_fp_filters: SOIC*3.9x4.9mm*P1.27mm*; Footprint: Package_SO:SOIC-8_3.9x4.9mm_P1.27mm; Datasheet: http://www.ti.com/lit/ds/symlink/sn75176a.pdf; Description_: Differential RS-422/RS-485 bus transceiver, SOIC-8
pins: 1 R, 2 ~{{RE}}, 3 DE, 4 D, 5 GND, 6 A, 7 B, 8 VCC

## SN75176AP
designator *  value SN75176AP  Reference: U
Differential RS-422/RS-485 bus transceiver, DIP-8; ki_keywords: Differential bus transceiver; ki_fp_filters: DIP*W7.62mm*; Footprint: Package_DIP:DIP-8_W7.62mm; Datasheet: http://www.ti.com/lit/ds/symlink/sn75176a.pdf; Description_: Differential RS-422/RS-485 bus transceiver, DIP-8
pins: 1 R, 2 ~{{RE}}, 3 DE, 4 D, 5 GND, 6 A, 7 B, 8 VCC

## SNJ55LBC176JG
designator *  value SNJ55LBC176JG  Reference: U
Differential bus transceiver, ceramic DIP-8; ki_fp_filters: DIP*W7.62mm*; Footprint: Package_DIP:DIP-8_W7.62mm; Datasheet: http://www.ti.com/lit/ds/symlink/sn75lbc176.pdf; Description_: Differential bus transceiver, ceramic DIP-8; ki_keywords: Differential bus transceiver
pins: 1 R, 2 ~{{RE}}, 3 DE, 4 D, 5 GND, 6 A, 7 B, 8 VCC

## SP3481CN
designator *  value SP3481CN  Reference: U
3.3V Low Power Half-Duplex RS-485 Transceiver 10Mbps, SOIC-8; ki_fp_filters: SOIC*3.9x4.9mm*P1.27mm*; Footprint: Package_SO:SOIC-8_3.9x4.9mm_P1.27mm; Datasheet: http://www.icbase.com/pdf/SPX/SPX00480106.pdf; Description_: 3.3V Low Power Half-Duplex RS-485 Transceiver 10Mbps, SOIC-8; ki_keywords: Low Power Half-Duplex RS-485 Transceiver 10Mbps
pins: 1 RO, 2 ~{{RE}}, 3 DE, 4 DI, 5 GND, 6 A, 7 B, 8 VCC

## SP3481CP
designator *  value SP3481CP  Reference: U
3.3V Low Power Half-Duplex RS-485 Transceiver 10Mbps, DIP8; ki_fp_filters: DIP*W7.62mm*; Footprint: Package_DIP:DIP-8_W7.62mm; Datasheet: http://www.icbase.com/pdf/SPX/SPX00480106.pdf; Description_: 3.3V Low Power Half-Duplex RS-485 Transceiver 10Mbps, DIP8; ki_keywords: Low Power Half-Duplex RS-485 Transceiver 10Mbps
pins: 1 RO, 2 ~{{RE}}, 3 DE, 4 DI, 5 GND, 6 A, 7 B, 8 VCC

## SP3481EN
designator *  value SP3481EN  Reference: U
Industrial 3.3V Low Power Half-Duplex RS-485 Transceiver 10Mbps, SOIC-8; ki_fp_filters: SOIC*3.9x4.9mm*P1.27mm*; Footprint: Package_SO:SOIC-8_3.9x4.9mm_P1.27mm; Datasheet: http://www.icbase.com/pdf/SPX/SPX00480106.pdf; Description_: Industrial 3.3V Low Power Half-Duplex RS-485 Transceiver 10Mbps, SOIC-8; ki_keywords: Low Power Half-Duplex RS-485 Transceiver 10Mbps
pins: 1 RO, 2 ~{{RE}}, 3 DE, 4 DI, 5 GND, 6 A, 7 B, 8 VCC

## SP3481EP
designator *  value SP3481EP  Reference: U
Industrial 3.3V Low Power Half-Duplex RS-485 Transceiver 10Mbps, DIP8; ki_fp_filters: DIP*W7.62mm*; Footprint: Package_DIP:DIP-8_W7.62mm; Datasheet: http://www.icbase.com/pdf/SPX/SPX00480106.pdf; Description_: Industrial 3.3V Low Power Half-Duplex RS-485 Transceiver 10Mbps, DIP8; ki_keywords: Low Power Half-Duplex RS-485 Transceiver 10Mbps
pins: 1 RO, 2 ~{{RE}}, 3 DE, 4 DI, 5 GND, 6 A, 7 B, 8 VCC

## SP3485CN
designator *  value SP3485CN  Reference: U
3.3V Low Power Half-Duplex RS-485 Transceiver 10Mbps, SOIC-8; ki_fp_filters: SOIC*3.9x4.9mm*P1.27mm*; Footprint: Package_SO:SOIC-8_3.9x4.9mm_P1.27mm; Datasheet: http://www.icbase.com/pdf/SPX/SPX00480106.pdf; Description_: 3.3V Low Power Half-Duplex RS-485 Transceiver 10Mbps, SOIC-8; ki_keywords: Low Power Half-Duplex RS-485 Transceiver 10Mbps
pins: 1 RO, 2 ~{{RE}}, 3 DE, 4 DI, 5 GND, 6 A, 7 B, 8 VCC

## SP3485CP
designator *  value SP3485CP  Reference: U
3.3V Low Power Half-Duplex RS-485 Transceiver 10Mbps, DIP8; ki_fp_filters: DIP*W7.62mm*; Footprint: Package_DIP:DIP-8_W7.62mm; Datasheet: http://www.icbase.com/pdf/SPX/SPX00480106.pdf; Description_: 3.3V Low Power Half-Duplex RS-485 Transceiver 10Mbps, DIP8; ki_keywords: Low Power Half-Duplex RS-485 Transceiver 10Mbps
pins: 1 RO, 2 ~{{RE}}, 3 DE, 4 DI, 5 GND, 6 A, 7 B, 8 VCC

## SP3485EN
designator *  value SP3485EN  Reference: U
Industrial 3.3V Low Power Half-Duplex RS-485 Transceiver 10Mbps, SOIC-8; ki_fp_filters: SOIC*3.9x4.9mm*P1.27mm*; Footprint: Package_SO:SOIC-8_3.9x4.9mm_P1.27mm; Datasheet: http://www.icbase.com/pdf/SPX/SPX00480106.pdf; Description_: Industrial 3.3V Low Power Half-Duplex RS-485 Transceiver 10Mbps, SOIC-8; ki_keywords: Low Power Half-Duplex RS-485 Transceiver 10Mbps
pins: 1 RO, 2 ~{{RE}}, 3 DE, 4 DI, 5 GND, 6 A, 7 B, 8 VCC

## SP3485EP
designator *  value SP3485EP  Reference: U
Industrial 3.3V Low Power Half-Duplex RS-485 Transceiver 10Mbps, DIP8; ki_fp_filters: DIP*W7.62mm*; Footprint: Package_DIP:DIP-8_W7.62mm; Datasheet: http://www.icbase.com/pdf/SPX/SPX00480106.pdf; Description_: Industrial 3.3V Low Power Half-Duplex RS-485 Transceiver 10Mbps, DIP8; ki_keywords: Low Power Half-Duplex RS-485 Transceiver 10Mbps
pins: 1 RO, 2 ~{{RE}}, 3 DE, 4 DI, 5 GND, 6 A, 7 B, 8 VCC

## SSP3085
designator *  value SSP3085  Reference: U
RS-485, RS-422 Half duplex 500kbps transceiver, 15kV ESD protected, 5V operating voltage, SOIC-8; ki_keywords: RS485 RS422 transceiver half duplex Siproin; ki_fp_filters: SOIC*3.9x4.9mm*P1.27mm*; Footprint: Package_SO:SOIC-8_3.9x4.9mm_P1.27mm; Datasheet: https://www.lcsc.com/datasheet/lcsc_datasheet_2404071515_Shanghai-Siproin-Microelectronics-SSP3085_C410986.pdf; Description_: RS-485, RS-422 Half duplex 500kbps transceiver, 15kV ESD protected, 5V operating voltage, SOIC-8
pins: 1 RO, 2 ~{{RE}}, 3 DE, 4 DI, 5 GND, 6 A, 7 B, 8 VCC

## ST202ExD
designator *  value ST202ExD  Reference: U
+/-15 kV ESD-protected 5V powered RS-232 dual transceiver (tx/rx: 2/2), 230kbps, 0.1uF capacitors operation, SOIC-16; ki_keywords: UART RS232; ki_fp_filters: *SO*3.9*9.*P1.27mm*; Footprint: Package_SO:SOIC-16_3.9x9.9mm_P1.27mm; Datasheet: https://www.st.com/resource/en/datasheet/st202eb.pdf; Description_: +/-15 kV ESD-protected 5V powered RS-232 dual transceiver (tx/rx: 2/2), 230kbps, 0.1uF capacitors operation, SOIC-16
pins: 1 C1+, 2 VS+, 3 C1-, 4 C2+, 5 C2-, 6 VS-, 7 T2OUT, 8 R2IN, 9 R2OUT, 10 T2IN, 11 T1IN, 12 R1OUT, 13 R1IN, 14 T1OUT, 15 GND, 16 VCC
text: LOGIC; RS232

## ST232ExD
designator *  value ST232ExD  Reference: U
+/-15 kV ESD-protected 5V powered RS-232 dual transceiver (tx/rx: 2/2), 230kbps, 1uF capacitors operation, SOIC-16; ki_keywords: UART RS232; ki_fp_filters: *SO*3.9*9.*P1.27mm*; Footprint: Package_SO:SOIC-16_3.9x9.9mm_P1.27mm; Datasheet: https://www.st.com/resource/en/datasheet/st202eb.pdf; Description_: +/-15 kV ESD-protected 5V powered RS-232 dual transceiver (tx/rx: 2/2), 230kbps, 1uF capacitors operation, SOIC-16
pins: 1 C1+, 2 VS+, 3 C1-, 4 C2+, 5 C2-, 6 VS-, 7 T2OUT, 8 R2IN, 9 R2OUT, 10 T2IN, 11 T1IN, 12 R1OUT, 13 R1IN, 14 T1OUT, 15 GND, 16 VCC
text: LOGIC; RS232

## ST485E
designator *  value ST485E  Reference: U
Half duplex RS-485/RS-422, 5 Mbps, ±15kV ESD, 5V supply, 256 bus load, SOIC-8; ki_keywords: ST-Microelectronics half-duplex; ki_fp_filters: SOIC*3.9x4.9mm*P1.27mm*; Footprint: Package_SO:SOIC-8_3.9x4.9mm_P1.27mm; Datasheet: http://www.st.com/resource/en/datasheet/st485eb.pdf; Description_: Half duplex RS-485/RS-422, 5 Mbps, ±15kV ESD, 5V supply, 256 bus load, SOIC-8
pins: 1 RO, 2 ~{{RE}}, 3 DE, 4 DI, 5 GND, 6 A, 7 B, 8 VCC

## THVD1400D
designator *  value THVD1400D  Reference: U
Half duplex RS-485/RS-422, 500 Kbps, 3V - 5.5V supply, ±12kV electro-static discharge (ESD) protection, with receiver/driver enable, 32 receiver drive capacity, SOIC-8; ki_keywords: Half duplex 3.3V 5V RS-485 RS-422; ki_fp_filters: SOIC*3.9x4.9mm*P1.27mm*; Footprint: Package_SO:SOIC-8_3.9x4.9mm_P1.27mm; Datasheet: https://www.ti.com/lit/ds/symlink/thvd1420.pdf; Description_: Half duplex RS-485/RS-422, 500 Kbps, 3V - 5.5V supply, ±12kV electro-static discharge (ESD) protection, with receiver/driver enable, 32 receiver drive capacity, SOIC-8
pins: 1 RO, 2 ~{{RE}}, 3 DE, 4 DI, 5 GND, 6 A, 7 B, 8 VCC

## THVD1420D
designator *  value THVD1420D  Reference: U
Half duplex RS-485/RS-422, 12 Mbps, 3V - 5.5V supply, ±12kV electro-static discharge (ESD) protection, with receiver/driver enable, 32 receiver drive capacity, SOIC-8; ki_keywords: Half duplex 3.3V 5V RS-485 RS-422; ki_fp_filters: SOIC*3.9x4.9mm*P1.27mm*; Footprint: Package_SO:SOIC-8_3.9x4.9mm_P1.27mm; Datasheet: https://www.ti.com/lit/ds/symlink/thvd1420.pdf; Description_: Half duplex RS-485/RS-422, 12 Mbps, 3V - 5.5V supply, ±12kV electro-static discharge (ESD) protection, with receiver/driver enable, 32 receiver drive capacity, SOIC-8
pins: 1 RO, 2 ~{{RE}}, 3 DE, 4 DI, 5 GND, 6 A, 7 B, 8 VCC

## THVD1450D
designator *  value THVD1450D  Reference: U
3.3-V to 5-V RS-485 transceiver with ±18-kV IEC ESD protection, SOIC-8; Manufacturer: Texas Instruments; ki_keywords: tranceiver rs485 esd; ki_fp_filters: *SOIC*3.9x4.9mm*P1.27mm*; Footprint: Package_SO:SOIC-8_3.9x4.9mm_P1.27mm; Datasheet: https://www.ti.com/lit/ds/symlink/thvd1450.pdf; Description_: 3.3-V to 5-V RS-485 transceiver with ±18-kV IEC ESD protection, SOIC-8
pins: 1 RO, 2 ~{{RE}}, 3 DE, 4 DI, 5 GND, 6 A, 7 B, 8 VCC

## THVD1450DR
designator *  value THVD1450DR  Reference: U
3.3-V to 5-V RS-485 transceiver with ±18-kV IEC ESD protection, VSON-8; Manufacturer: Texas Instruments; ki_keywords: tranceiver rs485 esd; ki_fp_filters: *VSON*3x3mm*P0.65mm*EP1.6x2.4mm*; Footprint: Package_SON:VSON-8-1EP_3x3mm_P0.65mm_EP1.6x2.4mm; Datasheet: https://www.ti.com/lit/ds/symlink/thvd1450.pdf; Description_: 3.3-V to 5-V RS-485 transceiver with ±18-kV IEC ESD protection, VSON-8
pins: 1 RO, 2 ~{{RE}}, 3 DE, 4 DI, 5 GND, 6 A, 7 B, 8 VCC

## THVD1451D
designator *  value THVD1451D  Reference: U
RS485 transceiver, 3.3-V to 5-V, 18-kV IEC ESD Protection, SOIC-8; ki_keywords: rs485 transceiver line driver; ki_fp_filters: SOIC*3.9x4.9mm*P1.27mm*; Footprint: Package_SO:SOIC-8_3.9x4.9mm_P1.27mm; Datasheet: http://www.ti.com/lit/ds/symlink/thvd1451.pdf; Description_: RS485 transceiver, 3.3-V to 5-V, 18-kV IEC ESD Protection, SOIC-8
pins: 1 VCC, 2 R, 3 D, 4 GND, 5 Y, 6 Z, 7 B, 8 A

## THVD1500
designator *  value THVD1500  Reference: U
Half duplex RS-485, 500 Kbps, 4.5V - 5.5V supply, ±8kV electro-static discharge (ESD) protection, with receiver/driver enable, SOIC-8; ki_keywords: Half duplex 4.5V 5.5V RS-485; ki_fp_filters: SOIC*3.9x4.9mm*P1.27mm*; Footprint: Package_SO:SOIC-8_3.9x4.9mm_P1.27mm; Datasheet: https://www.ti.com/lit/ds/symlink/thvd1500.pdf; Description_: Half duplex RS-485, 500 Kbps, 4.5V - 5.5V supply, ±8kV electro-static discharge (ESD) protection, with receiver/driver enable, SOIC-8
pins: 1 RO, 2 ~{{RE}}, 3 DE, 4 DI, 5 GND, 6 A, 7 B, 8 VCC

## THVD2410V
designator U?  value THVD2410V  (hidden comment: *)
3-V to 5.5-V, 1-Mbps, half-duplex RS-485 transceiver with flexible IO and 70-V bus-fault protection; Manufacturer: Texas Instruments; Manufacturer Lifecycle Status: ACTIVE; Manufacturer Part Number: THVD2410VDRCR; Description_: Half duplex RS-485/RS-422, 500 Kbps, 3V - 5.5V supply, ±12kV electro-static discharge (ESD) protection, with receiver/driver enable, 32 receiver drive capacity, SOIC-8; ki_keywords: Half duplex 3.3V 5V RS-485 RS-422; ki_fp_filters: SOIC*3.9x4.9mm*P1.27mm*; Reference: U; DNP: ND; Footprint: Package_SO:SOIC-8_3.9x4.9mm_P1.27mm; Datasheet: https://www.ti.com/lit/ds/symlink/thvd1420.pdf; Category: Integrated Circuits (ICs); Height: 1mm; Length: 3mm; Lifecycle Status: Production; Pins: 10; RoHS: Compliant; Thickness: 900µm; Width: 3mm; Supplier 1: Mouser; Supplier Part Number 1: 595-THVD2410VDRCR; Supplier Packaging 1: Tape & Reel; Supplier Unit Price 1: $4.45; Supplier Location 1: US
footprint VSON-10-1EP_3x3mm_P0.5mm_EP1.2x2mm
pins: 1 VIO, 2 RO, 3 DE, 4 ~{{RE}}, 5 DI, 6 GND, 7 SLR, 8 A, 9 B, 10 VCC, 11 GND

## THVD8000
designator *  value THVD8000  Reference: U
RS-485 500 kbps Transceiver with OOK Modulation for Power Line Communication, 3V-5.5V supply, -7 to +12V common mode range, SOT-23-8; ki_keywords: RS485 half-duplex power-line-communication PLC powerline; ki_fp_filters: SOT?23*; Footprint: Package_TO_SOT_SMD:SOT-23-8; Datasheet: https://www.ti.com/lit/ds/symlink/thvd8000.pdf; Description_: RS-485 500 kbps Transceiver with OOK Modulation for Power Line Communication, 3V-5.5V supply, -7 to +12V common mode range, SOT-23-8
pins: 1 R, 2 MODE, 3 F_SET, 4 D, 5 GND, 6 A, 7 B, 8 VCC

## TRS3122ERGER
designator U?  value TRS3122ERGER
1.65- to 5.5-V 1Mbps RS-232 line driver/receiver with logic supply pin & +/-15-kV IEC-ESD protection\n                        \n; Manufacturer Lifecycle Status: ACTIVE; MF: Texas Instruments; Description_: \n                        \n                            1.65- to 5.5-V 1Mbps RS-232 line driver/receiver with logic supply pin & +/-15-kV IEC-ESD protection\n                        \n; Max Junction Temperature (Tj): 150°C; Max Supply Voltage: 5.5V; Min Supply Voltage: 1.65V; Number of Drivers: 2; Footprint: TRS3122ERGER:QFN50P400X400X100-25N; Package: VQFN-24 Texas Instruments; Case/Package: VQFN; Category: RS-232 / RS-422 / RS-485 Interface ICs; Data Rate: 1Mbps; Height: 1mm; Interface: RS-232; Lead Free: Lead Free; Length: 4mm; Lifecycle Status: Production; Manufacturer: Texas Instruments; Manufacturer Part Number: TRS3122ERGER; Max Operating Temperature: 85°C; Min Operating Temperature: -40°C; Pins: 24; Number of Receivers: 2; Number of Transmitters: 2; RoHS: Compliant; Schedule B: 8542390000, 8542390000|8542390000|8542390000|8542390000|8542390000; Thickness: 880µm; Width: 4mm; Supplier 1: Mouser; Supplier Part Number 1: 595-TRS3122ERGER; Supplier Packaging 1: Tape & Reel; Supplier Unit Price 1: $2.73; Supplier Location 1: US
footprint QFN-24-1EP_4x4mm_P0.5mm_EP2.5x2.5mm
pins: 1 C3+ (io), 2 C3- (io), 3 RIN1 (in), 4 RIN2 (in), 5 DOUT1 (out), 6 DOUT2 (out), 9 DIN2 (in), 10 DIN1 (in), 11 ROUT2 (out), 12 ROUT1 (out), 13 INVALID# (out), 14 FORCEOFF# (in), 15 FORCEON (in), 16 C1- (io), 17 GND (power), 18 VL (io), 19 VCC (power), 20 V+ (power), 21 C1+ (io), 22 C2+ (io), 23 C2- (io), 24 V- (power), 25 EP (power)

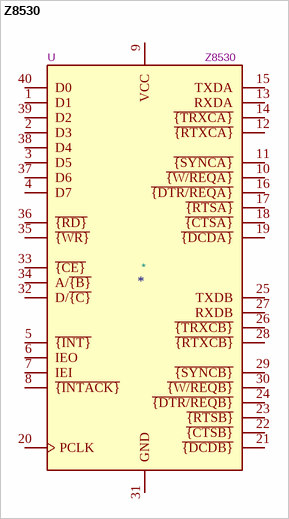
[diagram p6: symbol Z8530]

## Z8530
designator *  value Z8530  Reference: U
SCC Serial Communication Controller, DIP-40; ki_fp_filters: DIP* PDIP*; Description_: SCC Serial Communication Controller, DIP-40; ki_keywords: SCC Serial Communication
pins: 1 D1, 2 D3, 3 D5, 4 D7, 5 ~{{INT}}, 6 IEO, 7 IEI, 8 ~{{INTACK}}, 9 VCC, 10 ~{{W/REQA}}, 11 ~{{SYNCA}}, 12 ~{{RTXCA}}, 13 RXDA, 14 ~{{TRXCA}}, 15 TXDA, 16 ~{{DTR/REQA}}, 17 ~{{RTSA}}, 18 ~{{CTSA}}, 19 ~{{DCDA}}, 20 PCLK, 21 ~{{DCDB}}, 22 ~{{CTSB}}, 23 ~{{RTSB}}, 24 ~{{DTR/REQB}}, 25 TXDB, 26 ~{{TRXCB}}, 27 RXDB, 28 ~{{RTXCB}}, 29 ~{{SYNCB}}, 30 ~{{W/REQB}}, 31 GND, 32 D/~{{C}}, 33 ~{{CE}}, 34 A/~{{B}}, 35 ~{{WR}}, 36 ~{{RD}}, 37 D6, 38 D4, 39 D2, 40 D0